# Altium footprint library PJ-102A.PcbLib: 2 footprints
Each footprint in its own frame and in the unit in brackets; x right, y up, seen from the top. Pads: shape width x height; smd on the part's side, far side on the other; paste and mask are expansions set on the pad; w line width, h text height; cw(c..) or ccw(c..) is an arc to the next point about the centre after c.
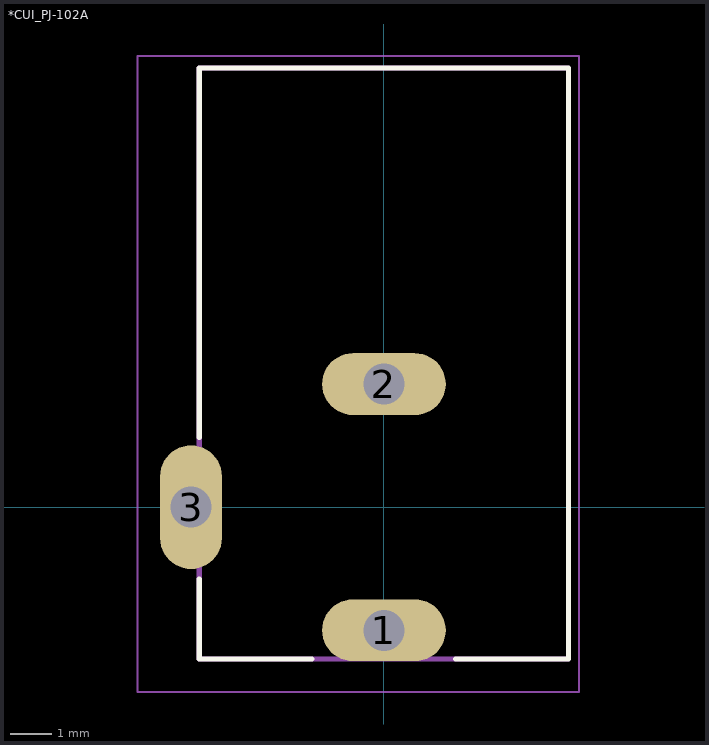
[diagram p0: the footprints below, top view; thin cyan lines are the x and y axes]

## *CUI_PJ-102A [mm]
pads (3):
  oval 3.016x1.508 hole 1: 1(0,-3) 2(0,3)
  oval 1.508x3.016 hole 1: 3(-4.7,0)
Top Overlay:
  lines w0.127: -4.5,-1.75 -4.5,-3.7 -1.75,-3.7 ; -4.5,1.7 -4.5,10.7 4.5,10.7 4.5,-3.7 1.75,-3.7
Mechanical 1:
  lines w0: -5.2,-0.8 -5.2,0.8 -4.2,0.8 -4.2,-0.8 -5.2,-0.8 ; -0.8,-3.5 0.8,-3.5 0.8,-2.5 -0.8,-2.5 -0.8,-3.5 ; -0.8,2.5 0.8,2.5 0.8,3.5 -0.8,3.5 -0.8,2.5
Mechanical 4:
  lines w0.127: -4.5,-3.7 -4.5,10.7 ; -4.5,-3.7 4.5,-3.7 ; -4.5,-3.7 -4.5,10.7 ; -4.5,-3.7 4.5,-3.7 ; -4.5,10.7 4.5,10.7 ; -4.5,10.7 4.5,10.7 ; 4.5,-3.7 4.5,10.7 ; 4.5,-3.7 4.5,10.7
Mechanical 16:
  lines w0.05: -6,-4.5 4.75,-4.5 4.75,11 -6,11 -6,-4.5

## PCBComponent_1 [mm]